# EAGLE library part AD8422 (library EEG)
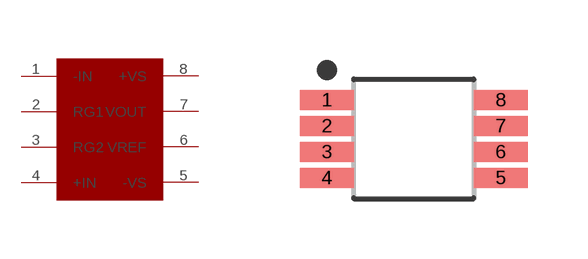
[diagram p5: symbol with the pads of AD8422; footprint AD8422]

Designator prefix -

## AD8422  [AD8422]
1  -IN
2  RG1
3  RG2
4  +IN
5  -VS
6  VREF
7  VOUT
8  +VS

## Footprint AD8422 (pad centres in mm)
8-SOP, 0.65 mm pitch, 4.90 mm span, 3.00 X 3.00 X 0.85 mm body 8-pin SOP package with 0.65 mm pitch, 4.90 mm span with body size 3.00 X 3.00 X 0.85 mm
smd 1.362 x 0.497: 1 -2.175,0.975; 2 -2.175,0.325; 3 -2.175,-0.325; 4 -2.175,-0.975; 5 2.175,-0.975; 6 2.175,-0.325; 7 2.175,0.325; 8 2.175,0.975